# EAGLE library part MILLI-GRID-34 (library con-molex)
Milli-Grid Pin Header 2.00mm (.079") Pitch
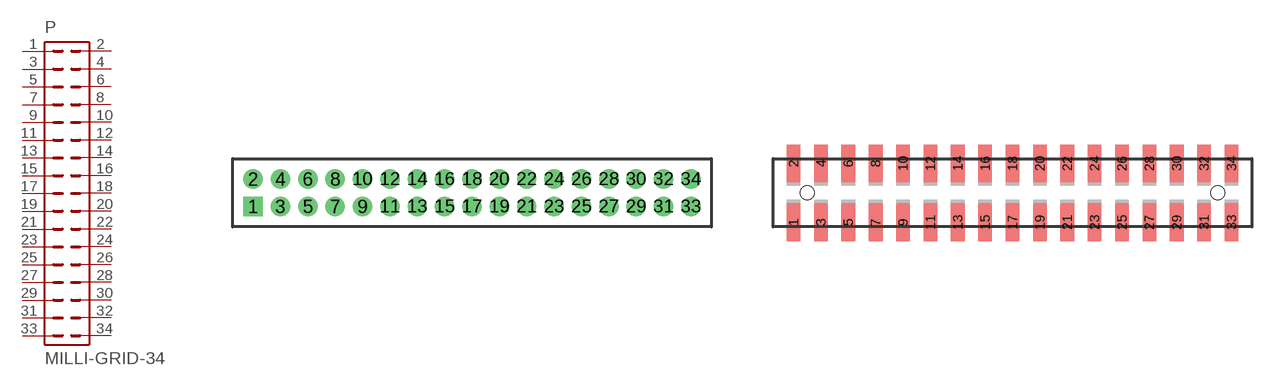
[diagram p65: symbol with the pads of 87758-34; footprints 87758-34, 87759-34]

Designator prefix P

## MILLI-GRID-34-87758  [87758-34]
1  1  pas
2  2  pas
3  3  pas
4  4  pas
5  5  pas
6  6  pas
7  7  pas
8  8  pas
9  9  pas
10  10  pas
11  11  pas
12  12  pas
13  13  pas
14  14  pas
15  15  pas
16  16  pas
17  17  pas
18  18  pas
19  19  pas
20  20  pas
21  21  pas
22  22  pas
23  23  pas
24  24  pas
25  25  pas
26  26  pas
27  27  pas
28  28  pas
29  29  pas
30  30  pas
31  31  pas
32  32  pas
33  33  pas
34  34  pas

## MILLI-GRID-34-87759  [87759-34]
Pads as for 87758-34

## MILLI-GRID-34-87264  [87264-34]
Pads as for 87758-34

## MILLI-GRID-34-87368  [87368-34]
Pads as for 87758-34

## Footprint 87758-34 (pad centres in mm)
PCB Pin Headers 2.00mm (.079") Pitch Milli-Grid Header, Vertical
drill 0.914 square: 1 -16,-1
drill 0.914: 2 -16,1; 3 -14,-1; 4 -14,1; 5 -12,-1; 6 -12,1; 7 -10,-1; 8 -10,1; 9 -8,-1; 10 -8,1; 11 -6,-1; 12 -6,1; 13 -4,-1; 14 -4,1; 15 -2,-1; 16 -2,1; 17 0,-1; 18 0,1; 19 2,-1; 20 2,1; 21 4,-1; 22 4,1; 23 6,-1; 24 6,1; 25 8,-1; 26 8,1; 27 10,-1; 28 10,1; 29 12,-1; 30 12,1; 31 14,-1; 32 14,1; 33 16,-1; 34 16,1

## Footprint 87759-34 (pad centres in mm)
PCB Pin Headers 2.00mm (.079") Pitch Milli-Grid Header, Vertical SMD
smd 1 x 2.75: 1 -16,-2.15; 2 -16,2.15; 3 -14,-2.15; 4 -14,2.15; 5 -12,-2.15; 6 -12,2.15; 7 -10,-2.15; 8 -10,2.15; 9 -8,-2.15; 10 -8,2.15; 11 -6,-2.15; 12 -6,2.15; 13 -4,-2.15; 14 -4,2.15; 15 -2,-2.15; 16 -2,2.15; 17 0,-2.15; 18 0,2.15; 19 2,-2.15; 20 2,2.15; 21 4,-2.15; 22 4,2.15; 23 6,-2.15; 24 6,2.15; 25 8,-2.15; 26 8,2.15; 27 10,-2.15; 28 10,2.15; 29 12,-2.15; 30 12,2.15; 31 14,-2.15; 32 14,2.15; 33 16,-2.15; 34 16,2.15
hole 1 at -15,0
hole 1 at 15,0

## Footprint 87264-34 (pad centres in mm)
Board-To-Board Receptacal 2.00mm (.079") Pitch Milli-Grid Header, Side Entry Mates with 2mm(.079") Mill-Grid Header
drill 0.914 square: 1 -16,-2.25
drill 0.914: 2 -16,2.25; 3 -14,-2.25; 4 -14,2.25; 5 -12,-2.25; 6 -12,2.25; 7 -10,-2.25; 8 -10,2.25; 9 -8,-2.25; 10 -8,2.25; 11 -6,-2.25; 12 -6,2.25; 13 -4,-2.25; 14 -4,2.25; 15 -2,-2.25; 16 -2,2.25; 17 0,-2.25; 18 0,2.25; 19 2,-2.25; 20 2,2.25; 21 4,-2.25; 22 4,2.25; 23 6,-2.25; 24 6,2.25; 25 8,-2.25; 26 8,2.25; 27 10,-2.25; 28 10,2.25; 29 12,-2.25; 30 12,2.25; 31 14,-2.25; 32 14,2.25; 33 16,-2.25; 34 16,2.25

## Footprint 87368-34 (pad centres in mm)
Board-To-Board Receptacal 2.00mm (.079") Pitch Milli-Grid Header, Side Entry SMD Mates with 2mm(.079") Mill-Grid Header
smd 1 x 2.8: 1 -16,-3.1; 2 -16,3.1; 3 -14,-3.1; 4 -14,3.1; 5 -12,-3.1; 6 -12,3.1; 7 -10,-3.1; 8 -10,3.1; 9 -8,-3.1; 10 -8,3.1; 11 -6,-3.1; 12 -6,3.1; 13 -4,-3.1; 14 -4,3.1; 15 -2,-3.1; 16 -2,3.1; 17 0,-3.1; 18 0,3.1; 19 2,-3.1; 20 2,3.1; 21 4,-3.1; 22 4,3.1; 23 6,-3.1; 24 6,3.1; 25 8,-3.1; 26 8,3.1; 27 10,-3.1; 28 10,3.1; 29 12,-3.1; 30 12,3.1; 31 14,-3.1; 32 14,3.1; 33 16,-3.1; 34 16,3.1
hole 0.914 at -16,0
hole 0.914 at 0,0